# Altium schematic symbol library Relays.SchLib: 2 symbols
Pins are listed as number, name and electrical type; pins without a type are passive.

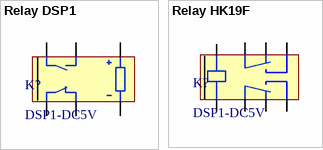
[diagram p0: symbols Relay DSP1 to Relay HK19F]

## Relay DSP1
designator K?, comment DSP1-DC5V
footprint Relay DSP1
pins: 1, 5, 8, 9, 12, 16

## Relay HK19F
designator K?, comment DSP1-DC5V
footprint Relay HK19F
pins: 1, 4, 6, 8, 9, 11, 13, 16